# Altium schematic symbol library DIODES PTH.SchLib: 10 symbols
Pins are listed as number, name and electrical type; pins without a type are passive.

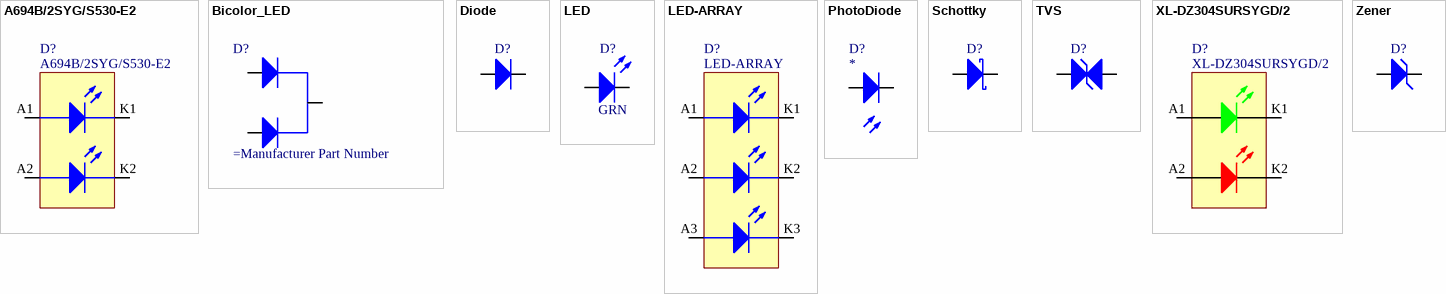
[diagram p0: symbols A694B/2SYG/S530-E2 to Zener]

## A694B/2SYG/S530-E2
designator D?
LED YELLOW GREEN FROSTED GREEN LENS TH; Manufacturer: EVERLIGHT; ComponentLink1Description: LCSC; ComponentLink1URL: *; ComponentLink2Description: Datasheet; ComponentLink2URL: *; Manufacturer Part Number: A694B/2SYG/S530-E2; Supplier: LCSC; Supplier Part Number: C93880; Value: -; Package: DIP-4-2.54mm
footprint A694B/2SYG/S530-E2 (/ 120626 / J.Jaramillo)
pins: A1, A2, K1, K2

## Bicolor_LED
designator D?
footprint Bicolor-Diode
pins: A1, A2, CC

## Diode
designator D?
Default Diode; Populated: Yes; ROHS: Yes; LifeCycle: Checked
footprint C1702-05
footprint C1702-15
footprint C1702-15
footprint C1702E15
footprint C2672
footprint C2673
footprint C2992
footprint C5102
footprint C4111-15
footprint CB417-12
footprint CB417-15
footprint CB429-15
footprint CB429-17
footprint D-2.5
footprint D-5
footprint D-7.5
footprint D-10
footprint D-12.5
footprint DO07
footprint DO13M
footprint DO15-12
footprint DO27-15
footprint DO27-15E
footprint DO27Z15
footprint DO34-5
footprint DO34-7
footprint DO34Z7
footprint DO35-7
footprint DO35-7A
footprint DO35-7B
footprint DO35-10
footprint DO35Z7
footprint DO35Z10
footprint DO41-7
footprint DO41-7.6
footprint DO41-10
footprint DO41Z10
footprint DO201-15
footprint DO201T15
footprint DO204-10
footprint DO218L
footprint DO218S
footprint DO220L
footprint DO-15, 600mil Axial
footprint DOP3L
footprint ER900
footprint F126-10
footprint F126-10A
footprint F126-12
footprint F126-12A
footprint F126Z10A
footprint F126Z10
footprint F126Z12
footprint F126Z12A
footprint G4-12
footprint G4-12E
footprint G4-15
footprint GT32
footprint P1-10
footprint P1-10E
footprint P1-12
footprint P1-12E
footprint P1Z12
footprint P1Z12E
footprint P2-15
footprint P3-15
footprint P6-15
footprint P6T15
footprint RAD2,5
footprint RAD2,5L
footprint RAD5G
footprint SGA-10
footprint SGB-10
footprint SGC-10
footprint SOD57-10
footprint SOD57Z10
footprint SOD61A
footprint SOD61B
footprint SOD61C
footprint SOD61D
footprint SOD61E
footprint SOD64-10
footprint SOD64-12
footprint SOD64Z10
footprint SOD64Z12
footprint SOD81
footprint SOD81Z
footprint SOD83-12
footprint SOD84
footprint SOT1862S
footprint TO18D
footprint TO220AC
footprint TO220ACK
footprint TO220ACS
footprint ZDIO12.5
footprint ZDIO-2.5
footprint ZDIO-5
footprint ZDIO-7.5
footprint ZDIO-10
footprint VISHAY_TSAL6200_T1-3/4 (Radial, 5mm Dia (T 1 3/4))
pins: A, C

## LED
designator D?, comment GRN
LED Diode; Populated: Yes; Value: GRN; ROHS: Yes; LifeCycle: Checked
footprint LED 3MM PTH
footprint KINGBRIGHT_WP813GD-10MM (LED GREEN DIFFUSED 10MM T/H, 2.54mm PITCH)
footprint WP934CB-GREEN
footprint WP934CB-RED
footprint WP934CB-YELLOW
footprint LED 5MM PTH_RIGHTANGLE
pins: A, C

## LED-ARRAY
designator D?
footprint EVERLIGHT_A1394B/3SYG/S530-E2
pins: A1, A2, A3, K1, K2, K3

## PhotoDiode
designator D?
Manufacturer Part Number: *
footprint HAMAMATSU-S7686 (Photodiode with sensitivity close to spectral luminous efficiency)
footprint HAMAMATSU-S6428 (Photodiode with sensitivity close to spectral luminous efficiency)
pins: A, C

## Schottky
designator D?
Schottky  Diode; Populated: Yes; ROHS: Yes; LifeCycle: Checked
footprint C1702-05
footprint C1702-15
footprint C1702-15
footprint C1702E15
footprint C2672
footprint C2673
footprint C2992
footprint C5102
footprint C4111-15
footprint CB417-12
footprint CB417-15
footprint CB429-15
footprint CB429-17
footprint D-2.5
footprint D-5
footprint D-7.5
footprint D-10
footprint D-12.5
footprint DO07
footprint DO13M
footprint DO15-12
footprint DO27-15
footprint DO27-15E
footprint DO27Z15
footprint DO34-5
footprint DO34-7
footprint DO34Z7
footprint DO35-7
footprint DO35-7A
footprint DO35-7B
footprint DO35-10
footprint DO35Z7
footprint DO35Z10
footprint DO41-7
footprint DO41-7.6
footprint DO41-10
footprint DO41Z10
footprint DO201-15
footprint DO201T15
footprint DO204-10
footprint DO218L
footprint DO218S
footprint DO220L
footprint DO-15, 600mil Axial
footprint DOP3L
footprint ER900
footprint F126-10
footprint F126-10A
footprint F126-12
footprint F126-12A
footprint F126Z10A
footprint F126Z10
footprint F126Z12
footprint F126Z12A
footprint G4-12
footprint G4-12E
footprint G4-15
footprint GT32
footprint P1-10
footprint P1-10E
footprint P1-12
footprint P1-12E
footprint P1Z12
footprint P1Z12E
footprint P2-15
footprint P3-15
footprint P6-15
footprint P6T15
footprint RAD2,5
footprint RAD2,5L
footprint RAD5G
footprint SGA-10
footprint SGB-10
footprint SGC-10
footprint SOD57-10
footprint SOD57Z10
footprint SOD61A
footprint SOD61B
footprint SOD61C
footprint SOD61D
footprint SOD61E
footprint SOD64-10
footprint SOD64-12
footprint SOD64Z10
footprint SOD64Z12
footprint SOD81
footprint SOD81Z
footprint SOD83-12
footprint SOD84
footprint SOT1862S
footprint TO18D
footprint TO220AC
footprint TO220ACK
footprint TO220ACS
footprint ZDIO12.5
footprint ZDIO-2.5
footprint ZDIO-5
footprint ZDIO-7.5
footprint ZDIO-10
pins: A, C

## TVS
designator D?
TVS Diode; Populated: Yes; ROHS: Yes; LifeCycle: Checked
footprint C1702-05
footprint C1702-15
footprint C1702-15
footprint C1702E15
footprint C2672
footprint C2673
footprint C2992
footprint C5102
footprint C4111-15
footprint CB417-12
footprint CB417-15
footprint CB429-15
footprint CB429-17
footprint D-2.5
footprint D-5
footprint D-7.5
footprint D-10
footprint D-12.5
footprint DO07
footprint DO13M
footprint DO15-12
footprint DO27-15
footprint DO27-15E
footprint DO27Z15
footprint DO34-5
footprint DO34-7
footprint DO34Z7
footprint DO35-7
footprint DO35-7A
footprint DO35-7B
footprint DO35-10
footprint DO35Z7
footprint DO35Z10
footprint DO41-7
footprint DO41-7.6
footprint DO41-10
footprint DO41Z10
footprint DO201-15
footprint DO201T15
footprint DO204-10
footprint DO218L
footprint DO218S
footprint DO220L
footprint DO-15, 600mil Axial
footprint DOP3L
footprint ER900
footprint F126-10
footprint F126-10A
footprint F126-12
footprint F126-12A
footprint F126Z10A
footprint F126Z10
footprint F126Z12
footprint F126Z12A
footprint G4-12
footprint G4-12E
footprint G4-15
footprint GT32
footprint P1-10
footprint P1-10E
footprint P1-12
footprint P1-12E
footprint P1Z12
footprint P1Z12E
footprint P2-15
footprint P3-15
footprint P6-15
footprint P6T15
footprint RAD2,5
footprint RAD2,5L
footprint RAD5G
footprint SGA-10
footprint SGB-10
footprint SGC-10
footprint SOD57-10
footprint SOD57Z10
footprint SOD61A
footprint SOD61B
footprint SOD61C
footprint SOD61D
footprint SOD61E
footprint SOD64-10
footprint SOD64-12
footprint SOD64Z10
footprint SOD64Z12
footprint SOD81
footprint SOD81Z
footprint SOD83-12
footprint SOD84
footprint SOT1862S
footprint TO18D
footprint TO220AC
footprint TO220ACK
footprint TO220ACS
footprint ZDIO12.5
footprint ZDIO-2.5
footprint ZDIO-5
footprint ZDIO-7.5
footprint ZDIO-10
pins: A, C

## XL-DZ304SURSYGD/2
designator D?
LED RED, YELLOW GREEN TH; Manufacturer: XINGLIGHT; ComponentLink1Description: LCSC; ComponentLink1URL: https://www.lcsc.com/product-detail/C7545666.html?spm=wm.fly.bg.8.xh___wm.fly.tp.0.ml&lcsc_vid=QwQPVlRfTlAMVlYEElEIBFZQRAdYBlYARVlXXlZQEVkxVlNeT1RdVVNSTlJZVTsOAxUeFF5JWBYZEEoKFBINSQcJGk4NBhADEA4cHktVT1dADxALGw%3D%3D; ComponentLink2Description: Datasheet; ComponentLink2URL: https://www.lcsc.com/datasheet/C7545666.pdf?spm=wm.sxq.inf.ggs___wm.fly.bg.8.xh&lcsc_vid=QwQPVlRfTlAMVlYEElEIBFZQRAdYBlYARVlXXlZQEVkxVlNeT1RdVVNSTlJZVTsOAxUeFF5JWBYZEEoKFBINSQcJGk4NBhADEA4cHktVT1dADxALGw%3D%3D; Manufacturer Part Number: XL-DZ304SURSYGD/2; Supplier: LCSC; Supplier Part Number: C7545667; Value: -; Package: DIP-4-2.54mm
footprint XL-DZ304SYGSURD/2 (LED RED, YELLOW GREEN TH)
pins: A1, A2, K1, K2

## Zener
designator D?
Zener Diode; Populated: Yes; ROHS: Yes; LifeCycle: Checked
footprint C1702-05
footprint C1702-15
footprint C1702-15
footprint C1702E15
footprint C2672
footprint C2673
footprint C2992
footprint C5102
footprint C4111-15
footprint CB417-12
footprint CB417-15
footprint CB429-15
footprint CB429-17
footprint D-2.5
footprint D-5
footprint D-7.5
footprint D-10
footprint D-12.5
footprint DO07
footprint DO13M
footprint DO15-12
footprint DO27-15
footprint DO27-15E
footprint DO27Z15
footprint DO34-5
footprint DO34-7
footprint DO34Z7
footprint DO35-7
footprint DO35-7A
footprint DO35-7B
footprint DO35-10
footprint DO35Z7
footprint DO35Z10
footprint DO41-7
footprint DO41-7.6
footprint DO41-10
footprint DO41Z10
footprint DO201-15
footprint DO201T15
footprint DO204-10
footprint DO218L
footprint DO218S
footprint DO220L
footprint DO-15, 600mil Axial
footprint DOP3L
footprint ER900
footprint F126-10
footprint F126-10A
footprint F126-12
footprint F126-12A
footprint F126Z10A
footprint F126Z10
footprint F126Z12
footprint F126Z12A
footprint G4-12
footprint G4-12E
footprint G4-15
footprint GT32
footprint P1-10
footprint P1-10E
footprint P1-12
footprint P1-12E
footprint P1Z12
footprint P1Z12E
footprint P2-15
footprint P3-15
footprint P6-15
footprint P6T15
footprint RAD2,5
footprint RAD2,5L
footprint RAD5G
footprint SGA-10
footprint SGB-10
footprint SGC-10
footprint SOD57-10
footprint SOD57Z10
footprint SOD61A
footprint SOD61B
footprint SOD61C
footprint SOD61D
footprint SOD61E
footprint SOD64-10
footprint SOD64-12
footprint SOD64Z10
footprint SOD64Z12
footprint SOD81
footprint SOD81Z
footprint SOD83-12
footprint SOD84
footprint SOT1862S
footprint TO18D
footprint TO220AC
footprint TO220ACK
footprint TO220ACS
footprint ZDIO12.5
footprint ZDIO-2.5
footprint ZDIO-5
footprint ZDIO-7.5
footprint ZDIO-10
pins: A, C